# EAGLE library part ATMEGA32U4 (library 000_nl2)
Atmel AtMega32U4
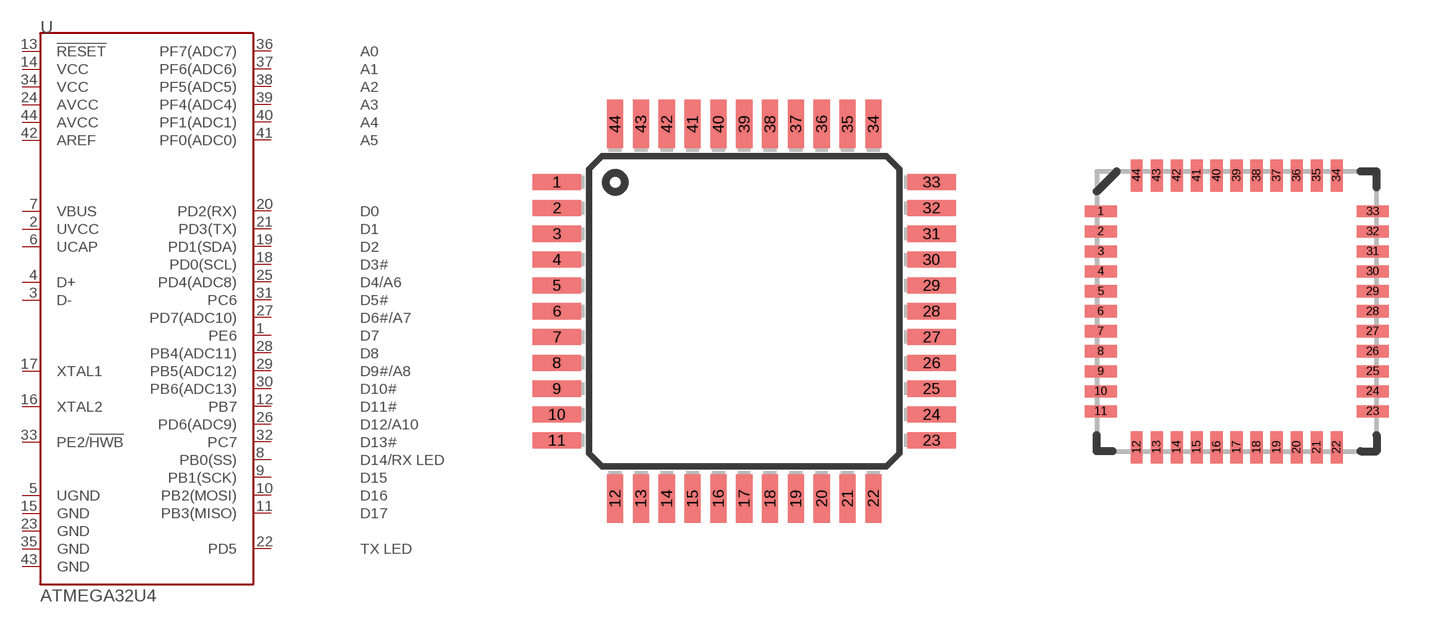
[diagram p13: symbol with the pads of TQFP44; footprints TQFP44, TESTING_QFN-44-NOPAD]

Designator prefix -

## ATMEGA32U444TQFP  [TQFP44]
1  PE6
2  UVCC
3  D-
4  D+
5  UGND
6  UCAP
7  VBUS
8  PB0(SS)
9  PB1(SCK)
10  PB2(MOSI)
11  PB3(MISO)
12  PB7
13  !RESET
14  VCC
15  GND
16  XTAL2
17  XTAL1
18  PD0(SCL)
19  PD1(SDA)
20  PD2(RX)
21  PD3(TX)
22  PD5
23  GND
24  AVCC
25  PD4(ADC8)
26  PD6(ADC9)
27  PD7(ADC10)
28  PB4(ADC11)
29  PB5(ADC12)
30  PB6(ADC13)
31  PC6
32  PC7
33  PE2/!HWB
34  VCC
35  GND
36  PF7(ADC7)
37  PF6(ADC6)
38  PF5(ADC5)
39  PF4(ADC4)
40  PF1(ADC1)
41  PF0(ADC0)
42  AREF
43  GND
44  AVCC

## ATMEGA32U444QFN"  [TESTING_QFN-44-NOPAD]
Pads as for TQFP44

## ATMEGA32U4  [QFP_AND_QFN_44]
1  PE6
2  UVCC
3  D-
4  D+
5  UGND
6  UCAP
7  VBUS
8  PB0(SS)
9  PB1(SCK)
10  PB2(MOSI)
11  PB3(MISO)
12  PB7
13  !RESET
14  VCC
15  GND
16  XTAL2
17  XTAL1
18  PD0(SCL)
19  PD1(SDA)
20  PD2(RX)
21  PD3(TX)
22  PD5
23  GND
24  AVCC
25  PD4(ADC8)
26  PD6(ADC9)
27  PD7(ADC10)
28  PB4(ADC11)
29  PB5(ADC12)
30  PB6(ADC13)
31  PC6
32  PC7
33  PE2/!HWB
34  VCC
35  GND
36  PF7(ADC7)
37  PF6(ADC6)
38  PF5(ADC5)
39  PF4(ADC4)
40  PF1(ADC1)
41  PF0(ADC0)
42  AREF
43  GND
44  AVCC
45  PE6
46  UVCC
47  D-
48  D+
49  UGND
50  UCAP
51  VBUS
52  PB0(SS)
53  PB1(SCK)
54  PB2(MOSI)
55  PB3(MISO)
56  PB7
57  !RESET
58  VCC
59  GND
60  XTAL2
61  XTAL1
62  PD0(SCL)
63  PD1(SDA)
64  PD2(RX)
65  PD3(TX)
66  PD5
67  GND
68  AVCC
69  PD4(ADC8)
70  PD6(ADC9)
71  PD7(ADC10)
72  PB4(ADC11)
73  PB5(ADC12)
74  PB6(ADC13)
75  PC6
76  PC7
77  PE2/!HWB
78  VCC
79  GND
80  PF7(ADC7)
81  PF6(ADC6)
82  PF5(ADC5)
83  PF4(ADC4)
84  PF1(ADC1)
85  PF0(ADC0)
86  AREF
87  GND
88  AVCC

## Footprint TQFP44 (pad centres in mm)
smd 1.5 x 0.5: 1 -5.8,4; 2 -5.8,3.2; 3 -5.8,2.4; 4 -5.8,1.6; 5 -5.8,0.8; 6 -5.8,0; 7 -5.8,-0.8; 8 -5.8,-1.6; 9 -5.8,-2.4; 10 -5.8,-3.2; 11 -5.8,-4; 23 5.8,-4; 24 5.8,-3.2; 25 5.8,-2.4; 26 5.8,-1.6; 27 5.8,-0.8; 28 5.8,0; 29 5.8,0.8; 30 5.8,1.6; 31 5.8,2.4; 32 5.8,3.2; 33 5.8,4
smd 0.5 x 1.5: 12 -4,-5.8; 13 -3.2,-5.8; 14 -2.4,-5.8; 15 -1.6,-5.8; 16 -0.8,-5.8; 17 0,-5.8; 18 0.8,-5.8; 19 1.6,-5.8; 20 2.4,-5.8; 21 3.2,-5.8; 22 4,-5.8; 34 4,5.8; 35 3.2,5.8; 36 2.4,5.8; 37 1.6,5.8; 38 0.8,5.8; 39 0,5.8; 40 -0.8,5.8; 41 -1.6,5.8; 42 -2.4,5.8; 43 -3.2,5.8; 44 -4,5.8

## Footprint TESTING_QFN-44-NOPAD (pad centres in mm)
smd 0.8 x 0.3: 1 -3.4,2.5; 2 -3.4,2; 3 -3.4,1.5; 4 -3.4,1; 5 -3.4,0.5; 6 -3.4,0; 7 -3.4,-0.5; 8 -3.4,-1; 9 -3.4,-1.5; 10 -3.4,-2; 11 -3.4,-2.5; 23 3.4,-2.5; 24 3.4,-2; 25 3.4,-1.5; 26 3.4,-1; 27 3.4,-0.5; 28 3.4,0; 29 3.4,0.5; 30 3.4,1; 31 3.4,1.5; 32 3.4,2; 33 3.4,2.5
smd 0.3 x 0.8: 12 -2.5,-3.4; 13 -2,-3.4; 14 -1.5,-3.4; 15 -1,-3.4; 16 -0.5,-3.4; 17 0,-3.4; 18 0.5,-3.4; 19 1,-3.4; 20 1.5,-3.4; 21 2,-3.4; 22 2.5,-3.4; 34 2.5,3.4; 35 2,3.4; 36 1.5,3.4; 37 1,3.4; 38 0.5,3.4; 39 0,3.4; 40 -0.5,3.4; 41 -1,3.4; 42 -1.5,3.4; 43 -2,3.4; 44 -2.5,3.4

## Footprint QFP_AND_QFN_44 (pad centres in mm)
smd 1.5 x 0.5: 1 -5.8,4; 2 -5.8,3.2; 3 -5.8,2.4; 4 -5.8,1.6; 5 -5.8,0.8; 6 -5.8,0; 7 -5.8,-0.8; 8 -5.8,-1.6; 9 -5.8,-2.4; 10 -5.8,-3.2; 11 -5.8,-4; 23 5.8,-4; 24 5.8,-3.2; 25 5.8,-2.4; 26 5.8,-1.6; 27 5.8,-0.8; 28 5.8,0; 29 5.8,0.8; 30 5.8,1.6; 31 5.8,2.4; 32 5.8,3.2; 33 5.8,4
smd 0.5 x 1.5: 12 -4,-5.8; 13 -3.2,-5.8; 14 -2.4,-5.8; 15 -1.6,-5.8; 16 -0.8,-5.8; 17 0,-5.8; 18 0.8,-5.8; 19 1.6,-5.8; 20 2.4,-5.8; 21 3.2,-5.8; 22 4,-5.8; 34 4,5.8; 35 3.2,5.8; 36 2.4,5.8; 37 1.6,5.8; 38 0.8,5.8; 39 0,5.8; 40 -0.8,5.8; 41 -1.6,5.8; 42 -2.4,5.8; 43 -3.2,5.8; 44 -4,5.8
smd 0.8 x 0.3: 45 -3.337,2.465; 46 -3.337,1.972; 47 -3.337,1.479; 48 -3.337,0.986; 49 -3.337,0.493; 50 -3.337,0; 51 -3.337,-0.493; 52 -3.337,-0.986; 53 -3.337,-1.479; 54 -3.337,-1.972; 55 -3.337,-2.465; 67 3.337,-2.465; 68 3.337,-1.972; 69 3.337,-1.479; 70 3.337,-0.986; 71 3.337,-0.493; 72 3.337,0; 73 3.337,0.493; 74 3.337,0.986; 75 3.337,1.479; 76 3.337,1.972; 77 3.337,2.465
smd 0.3 x 0.8: 56 -2.465,-3.337; 57 -1.972,-3.337; 58 -1.479,-3.337; 59 -0.986,-3.337; 60 -0.493,-3.337; 61 0,-3.337; 62 0.493,-3.337; 63 0.986,-3.337; 64 1.479,-3.337; 65 1.972,-3.337; 66 2.465,-3.337; 78 2.465,3.337; 79 1.972,3.337; 80 1.479,3.337; 81 0.986,3.337; 82 0.493,3.337; 83 0,3.337; 84 -0.493,3.337; 85 -0.986,3.337; 86 -1.479,3.337; 87 -1.972,3.337; 88 -2.465,3.337